# EAGLE library part CM300 (library opamps)
CM300: Hybrid OpAmp
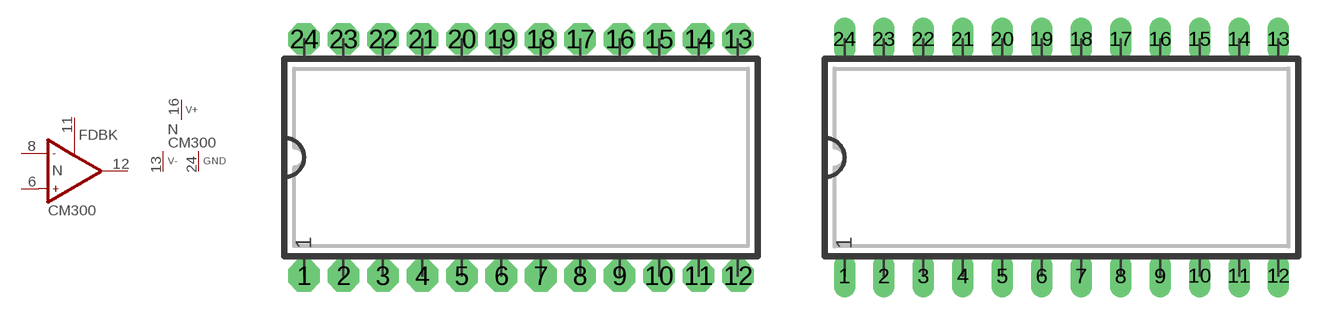
[diagram p208: symbol with the pads of DIP24WN; footprints DIP24WN, DIP24WL]

Designator prefix N; gates A=CM300 P=V+-GND

## CM300N  [DIP24WN]
6  A:OP+  in
8  A:OP-  in
11  A:FDBK
12  A:OPO  out
13  P:V-  pwr
16  P:V+  pwr
24  P:GND  pwr

## CM300L  [DIP24WL]
Pads as for DIP24WN

## CM300R  [DIP24WR]
Pads as for DIP24WN

## CM300  [DIP24WL]
Pads as for DIP24WN

## Footprint DIP24WN (pad centres in mm)
DIP-24 Standard IC package, 24 pins
drill 0.813 pad 2.032 octagon: 1 -13.97,-7.62; 2 -11.43,-7.62; 3 -8.89,-7.62; 4 -6.35,-7.62; 5 -3.81,-7.62; 6 -1.27,-7.62; 7 1.27,-7.62; 8 3.81,-7.62; 9 6.35,-7.62; 10 8.89,-7.62; 11 11.43,-7.62; 12 13.97,-7.62; 13 13.97,7.62; 14 11.43,7.62; 15 8.89,7.62; 16 6.35,7.62; 17 3.81,7.62; 18 1.27,7.62; 19 -1.27,7.62; 20 -3.81,7.62; 21 -6.35,7.62; 22 -8.89,7.62; 23 -11.43,7.62; 24 -13.97,7.62

## Footprint DIP24WL (pad centres in mm)
DIP-24, long pads Standard IC package, 24 pins
drill 0.813 pad 1.397 long: 1 -13.97,-7.62; 2 -11.43,-7.62; 3 -8.89,-7.62; 4 -6.35,-7.62; 5 -3.81,-7.62; 6 -1.27,-7.62; 7 1.27,-7.62; 8 3.81,-7.62; 9 6.35,-7.62; 10 8.89,-7.62; 11 11.43,-7.62; 12 13.97,-7.62; 13 13.97,7.62; 14 11.43,7.62; 15 8.89,7.62; 16 6.35,7.62; 17 3.81,7.62; 18 1.27,7.62; 19 -1.27,7.62; 20 -3.81,7.62; 21 -6.35,7.62; 22 -8.89,7.62; 23 -11.43,7.62; 24 -13.97,7.62

## Footprint DIP24WR (pad centres in mm)
DIP-24, reduced pads Standard IC package, 24 pins
drill 0.813 pad 1.397 square: 1 -13.97,-7.62; 2 -11.43,-7.62; 3 -8.89,-7.62; 4 -6.35,-7.62; 5 -3.81,-7.62; 6 -1.27,-7.62; 7 1.27,-7.62; 8 3.81,-7.62; 9 6.35,-7.62; 10 8.89,-7.62; 11 11.43,-7.62; 12 13.97,-7.62; 13 13.97,7.62; 14 11.43,7.62; 15 8.89,7.62; 16 6.35,7.62; 17 3.81,7.62; 18 1.27,7.62; 19 -1.27,7.62; 20 -3.81,7.62; 21 -6.35,7.62; 22 -8.89,7.62; 23 -11.43,7.62; 24 -13.97,7.62